# Altium schematic symbol library GENERIC_RKELVIN.Schlib: 1 symbol
Pins are listed as number, name and electrical type; pins without a type are passive.

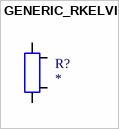
[diagram p0: symbol GENERIC_RKELVIN]

## GENERIC_RKELVIN
designator R?
pins: 1, 2, 3, 4